# EAGLE library part NHD-C0220AA-FSW-FTW (library NHD-C0220AA-FSW-FTW)
NHD-C0220AA-FSW-FTW http://www.newhavendisplay.com/specs/NHD-C0220AA-FSW-FTW.pdf COG (Chip-on-Glass) Liquid Crystal Display Module NHD Newhaven Display C0220 COG, 2 lines x 20 characters AA Model F Transflective SW Side White LED backlight F FSTN+ T 12:00 View Angle W Wide Temp (‐20°C ~ +70°C) RoHS Compliant www.newhavendisplay.com
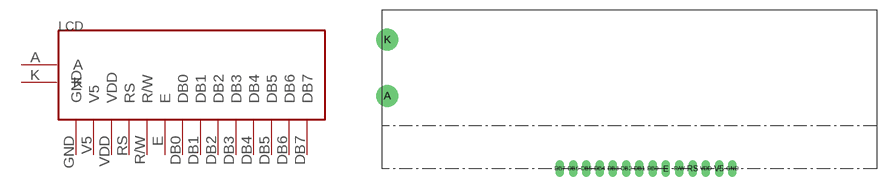
[diagram p0: symbol with the pads of NHD-C0220AA-FSW-FTW; footprint NHD-C0220AA-FSW-FTW]

Designator prefix LCD

## NHD-C0220AA-FSW-FTW  [NHD-C0220AA-FSW-FTW]
A  A
DB0  DB0
DB1  DB1
DB2  DB2
DB3  DB3
DB4  DB4
DB5  DB5
DB6  DB6
DB7  DB7
E  E
GND  GND
K  K
R/W  R/W
RS  RS
V5  V5
VDD  VDD

## Footprint NHD-C0220AA-FSW-FTW (pad centres in mm)
NHD-C0220AA-FSW-FTW http://www.newhavendisplay.com/specs/NHD-C0220AA-FSW-FTW.pdf COG (Chip-on-Glass) Liquid Crystal Display Module NHD Newhaven Display C0220 COG, 2 lines x 20 characters AA Model F Transflective SW Side White LED backlight F FSTN+ T 12:00 View Angle W Wide Temp (‐20°C ~ +70°C) RoHS Compliant www.newhavendisplay.com
drill 2.3: A -4.25,11; K -4.25,19.5
drill 0.8 long: DB0 35.75,0; DB1 33.75,0; DB2 31.75,0; DB3 29.75,0; DB4 27.75,0; DB5 25.75,0; DB6 23.75,0; DB7 21.75,0; E 37.75,0; GND 47.75,0; R/W 39.75,0; RS 41.75,0; V5 45.75,0; VDD 43.75,0